# Altium schematic symbol library jlcpcb_2025_04_ferrites_extended_1206.schlib: 308 symbols (part 4 of 6)
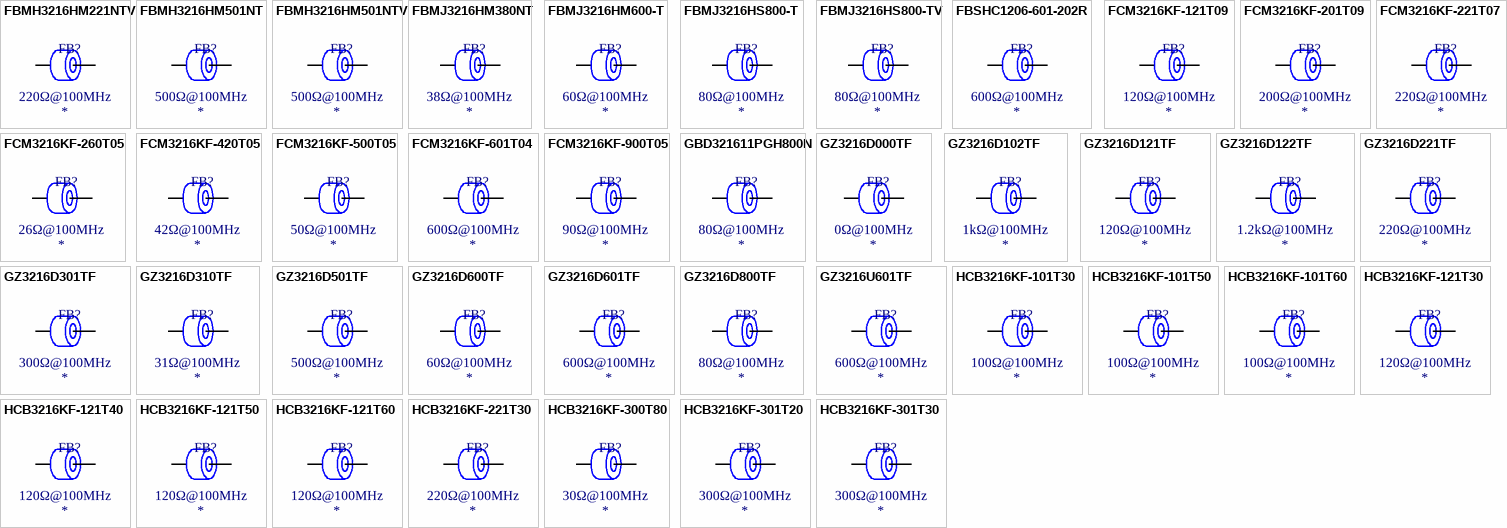
[diagram p10: symbols FBMH3216HM221NTV to HCB3216KF-301T30]

## FBMJ3216HM600-T
designator FB?  Impedance @ Frequency: 60Ω@100MHz
Ferrite, 60Ω@100MHz, ±25%, 10mΩ, 4A, SMD 1206; Manufacturer: Taiyo Yuden; Manufacturer Part Number: FBMJ3216HM600-T; Package Size: 1206; JLCPCB Basic Part: No; JLCPCB Part Number: C92886; Supplier 1: LCSC; Category: Ferrite Beads; Supplier Part Number 1: C92886; Tolerance: ±25%; Rated Current: 4A; DC Resistance: 10mΩ; RoHS: Yes; ComponentLink1Description: Datasheet; ComponentLink1URL: https://wmsc.lcsc.com/wmsc/upload/file/pdf/v2/lcsc/1810171733_Taiyo-Yuden-FBMJ3216HM600-T_C92886.pdf; ComponentLink2Description: JLCPCB Part URL; ComponentLink2URL: https://jlcpcb.com/partdetail/C92886; ComponentLink3Description: LCSC Part URL; ComponentLink3URL: https://lcsc.com/product-detail/Ferrite-Beads_Taiyo-Yuden-Taiyo-Yuden-FBMJ3216HM600-T_C92886.html
footprint FB-1206 (1206 (3216M) Ferrite)
pins: 1, 2

## FBMJ3216HS800-T
designator FB?  Impedance @ Frequency: 80Ω@100MHz
Ferrite, 80Ω@100MHz, ±25%, 10mΩ, 4A, SMD 1206; Manufacturer: Taiyo Yuden; Manufacturer Part Number: FBMJ3216HS800-T; Package Size: 1206; JLCPCB Basic Part: No; JLCPCB Part Number: C92887; Supplier 1: LCSC; Category: Ferrite Beads; Supplier Part Number 1: C92887; Tolerance: ±25%; Rated Current: 4A; DC Resistance: 10mΩ; RoHS: Yes; ComponentLink1Description: Datasheet; ComponentLink1URL: https://wmsc.lcsc.com/wmsc/upload/file/pdf/v2/lcsc/1810292006_Taiyo-Yuden-FBMJ3216HS800-T_C92887.pdf; ComponentLink2Description: JLCPCB Part URL; ComponentLink2URL: https://jlcpcb.com/partdetail/C92887; ComponentLink3Description: LCSC Part URL; ComponentLink3URL: https://lcsc.com/product-detail/Ferrite-Beads_Taiyo-Yuden-Taiyo-Yuden-FBMJ3216HS800-T_C92887.html
footprint FB-1206 (1206 (3216M) Ferrite)
pins: 1, 2

## FBMJ3216HS800-TV
designator FB?  Impedance @ Frequency: 80Ω@100MHz
Ferrite, 80Ω@100MHz, ±25%, 0.01Ω, 4A, SMD 1206; Manufacturer: Taiyo Yuden; Manufacturer Part Number: FBMJ3216HS800-TV; Package Size: 1206; JLCPCB Basic Part: No; JLCPCB Part Number: C2661525; Supplier 1: LCSC; Category: Ferrite Beads; Supplier Part Number 1: C2661525; Tolerance: ±25%; Rated Current: 4A; DC Resistance: 0.01Ω; RoHS: Yes; ComponentLink1Description: Datasheet; ComponentLink1URL: https://wmsc.lcsc.com/wmsc/upload/file/pdf/v2/lcsc/2309051352_Taiyo-Yuden-FBMJ3216HS800-TV_C2661525.pdf; ComponentLink2Description: JLCPCB Part URL; ComponentLink2URL: https://jlcpcb.com/partdetail/C2661525; ComponentLink3Description: LCSC Part URL; ComponentLink3URL: https://lcsc.com/product-detail/Ferrite-Beads_Taiyo-Yuden-Taiyo-Yuden-FBMJ3216HS800-TV_C2661525.html
footprint FB-1206 (1206 (3216M) Ferrite)
pins: 1, 2

## FBSHC1206-601-202R
designator FB?  Impedance @ Frequency: 600Ω@100MHz
Ferrite, 600Ω@100MHz, ±25%, 0.08Ω, 2A, SMD 1206; Manufacturer: KOHERelec; Manufacturer Part Number: FBSHC1206-601-202R; Package Size: 1206; JLCPCB Basic Part: No; JLCPCB Part Number: C2922545; Supplier 1: LCSC; Category: Ferrite Beads; Supplier Part Number 1: C2922545; Tolerance: ±25%; Rated Current: 2A; DC Resistance: 0.08Ω; RoHS: Yes; ComponentLink1Description: Datasheet; ComponentLink1URL: https://wmsc.lcsc.com/wmsc/upload/file/pdf/v2/lcsc/2201121300_KOHERelec-FBSHC1206-601-202R_C2922545.pdf; ComponentLink2Description: JLCPCB Part URL; ComponentLink2URL: https://jlcpcb.com/partdetail/C2922545; ComponentLink3Description: LCSC Part URL; ComponentLink3URL: https://lcsc.com/product-detail/Ferrite-Beads_KOHERelec-KOHERelec-FBSHC1206-601-202R_C2922545.html
footprint FB-1206 (1206 (3216M) Ferrite)
pins: 1, 2

## FCM3216KF-121T09
designator FB?  Impedance @ Frequency: 120Ω@100MHz
Ferrite, 120Ω@100MHz, ±25%, 150mΩ, 900mA, SMD 1206; Manufacturer: TAI-TECH; Manufacturer Part Number: FCM3216KF-121T09; Package Size: 1206; JLCPCB Basic Part: No; JLCPCB Part Number: C155089; Supplier 1: LCSC; Category: Ferrite Beads; Supplier Part Number 1: C155089; Tolerance: ±25%; Rated Current: 900mA; DC Resistance: 150mΩ; RoHS: Yes; ComponentLink1Description: Datasheet; ComponentLink1URL: https://wmsc.lcsc.com/wmsc/upload/file/pdf/v2/lcsc/2009171308_TAI-TECH-FCM3216KF-121T09_C155089.pdf; ComponentLink2Description: JLCPCB Part URL; ComponentLink2URL: https://jlcpcb.com/partdetail/C155089; ComponentLink3Description: LCSC Part URL; ComponentLink3URL: https://lcsc.com/product-detail/Ferrite-Beads_TAI-TECH-TAI-TECH-FCM3216KF-121T09_C155089.html
footprint FB-1206 (1206 (3216M) Ferrite)
pins: 1, 2

## FCM3216KF-201T09
designator FB?  Impedance @ Frequency: 200Ω@100MHz
Ferrite, 200Ω@100MHz, ±25%, 350mΩ, 900mA, SMD 1206; Manufacturer: TAI-TECH; Manufacturer Part Number: FCM3216KF-201T09; Package Size: 1206; JLCPCB Basic Part: No; JLCPCB Part Number: C155091; Supplier 1: LCSC; Category: Ferrite Beads; Supplier Part Number 1: C155091; Tolerance: ±25%; Rated Current: 900mA; DC Resistance: 350mΩ; RoHS: Yes; ComponentLink1Description: Datasheet; ComponentLink1URL: https://wmsc.lcsc.com/wmsc/upload/file/pdf/v2/lcsc/2009171308_TAI-TECH-FCM3216KF-201T09_C155091.pdf; ComponentLink2Description: JLCPCB Part URL; ComponentLink2URL: https://jlcpcb.com/partdetail/C155091; ComponentLink3Description: LCSC Part URL; ComponentLink3URL: https://lcsc.com/product-detail/Ferrite-Beads_TAI-TECH-TAI-TECH-FCM3216KF-201T09_C155091.html
footprint FB-1206 (1206 (3216M) Ferrite)
pins: 1, 2

## FCM3216KF-221T07
designator FB?  Impedance @ Frequency: 220Ω@100MHz
Ferrite, 220Ω@100MHz, ±25%, 350mΩ, 700mA, SMD 1206; Manufacturer: TAI-TECH; Manufacturer Part Number: FCM3216KF-221T07; Package Size: 1206; JLCPCB Basic Part: No; JLCPCB Part Number: C155092; Supplier 1: LCSC; Category: Ferrite Beads; Supplier Part Number 1: C155092; Tolerance: ±25%; Rated Current: 700mA; DC Resistance: 350mΩ; RoHS: Yes; ComponentLink1Description: Datasheet; ComponentLink1URL: https://wmsc.lcsc.com/wmsc/upload/file/pdf/v2/lcsc/2009171308_TAI-TECH-FCM3216KF-221T07_C155092.pdf; ComponentLink2Description: JLCPCB Part URL; ComponentLink2URL: https://jlcpcb.com/partdetail/C155092; ComponentLink3Description: LCSC Part URL; ComponentLink3URL: https://lcsc.com/product-detail/Ferrite-Beads_TAI-TECH-TAI-TECH-FCM3216KF-221T07_C155092.html
footprint FB-1206 (1206 (3216M) Ferrite)
pins: 1, 2

## FCM3216KF-260T05
designator FB?  Impedance @ Frequency: 26Ω@100MHz
Ferrite, 26Ω@100MHz, ±25%, 200mΩ, 500mA, SMD 1206; Manufacturer: TAI-TECH; Manufacturer Part Number: FCM3216KF-260T05; Package Size: 1206; JLCPCB Basic Part: No; JLCPCB Part Number: C155093; Supplier 1: LCSC; Category: Ferrite Beads; Supplier Part Number 1: C155093; Tolerance: ±25%; Rated Current: 500mA; DC Resistance: 200mΩ; RoHS: Yes; ComponentLink1Description: Datasheet; ComponentLink1URL: https://wmsc.lcsc.com/wmsc/upload/file/pdf/v2/lcsc/2009171308_TAI-TECH-FCM3216KF-260T05_C155093.pdf; ComponentLink2Description: JLCPCB Part URL; ComponentLink2URL: https://jlcpcb.com/partdetail/C155093; ComponentLink3Description: LCSC Part URL; ComponentLink3URL: https://lcsc.com/product-detail/Ferrite-Beads_TAI-TECH-TAI-TECH-FCM3216KF-260T05_C155093.html
footprint FB-1206 (1206 (3216M) Ferrite)
pins: 1, 2

## FCM3216KF-420T05
designator FB?  Impedance @ Frequency: 42Ω@100MHz
Ferrite, 42Ω@100MHz, ±25%, 200mΩ, 500mA, SMD 1206; Manufacturer: TAI-TECH; Manufacturer Part Number: FCM3216KF-420T05; Package Size: 1206; JLCPCB Basic Part: No; JLCPCB Part Number: C155096; Supplier 1: LCSC; Category: Ferrite Beads; Supplier Part Number 1: C155096; Tolerance: ±25%; Rated Current: 500mA; DC Resistance: 200mΩ; RoHS: Yes; ComponentLink1Description: Datasheet; ComponentLink1URL: https://wmsc.lcsc.com/wmsc/upload/file/pdf/v2/lcsc/2009171308_TAI-TECH-FCM3216KF-420T05_C155096.pdf; ComponentLink2Description: JLCPCB Part URL; ComponentLink2URL: https://jlcpcb.com/partdetail/C155096; ComponentLink3Description: LCSC Part URL; ComponentLink3URL: https://lcsc.com/product-detail/Ferrite-Beads_TAI-TECH-TAI-TECH-FCM3216KF-420T05_C155096.html
footprint FB-1206 (1206 (3216M) Ferrite)
pins: 1, 2

## FCM3216KF-500T05
designator FB?  Impedance @ Frequency: 50Ω@100MHz
Ferrite, 50Ω@100MHz, ±25%, 200mΩ, 500mA, SMD 1206; Manufacturer: TAI-TECH; Manufacturer Part Number: FCM3216KF-500T05; Package Size: 1206; JLCPCB Basic Part: No; JLCPCB Part Number: C155098; Supplier 1: LCSC; Category: Ferrite Beads; Supplier Part Number 1: C155098; Tolerance: ±25%; Rated Current: 500mA; DC Resistance: 200mΩ; RoHS: Yes; ComponentLink1Description: Datasheet; ComponentLink1URL: https://wmsc.lcsc.com/wmsc/upload/file/pdf/v2/lcsc/2009171335_TAI-TECH-FCM3216KF-500T05_C155098.pdf; ComponentLink2Description: JLCPCB Part URL; ComponentLink2URL: https://jlcpcb.com/partdetail/C155098; ComponentLink3Description: LCSC Part URL; ComponentLink3URL: https://lcsc.com/product-detail/Ferrite-Beads_TAI-TECH-TAI-TECH-FCM3216KF-500T05_C155098.html
footprint FB-1206 (1206 (3216M) Ferrite)
pins: 1, 2

## FCM3216KF-601T04
designator FB?  Impedance @ Frequency: 600Ω@100MHz
Ferrite, 600Ω@100MHz, ±25%, 400mΩ, 400mA, SMD 1206; Manufacturer: TAI-TECH; Manufacturer Part Number: FCM3216KF-601T04; Package Size: 1206; JLCPCB Basic Part: No; JLCPCB Part Number: C155099; Supplier 1: LCSC; Category: Ferrite Beads; Supplier Part Number 1: C155099; Tolerance: ±25%; Rated Current: 400mA; DC Resistance: 400mΩ; RoHS: Yes; ComponentLink1Description: Datasheet; ComponentLink1URL: https://wmsc.lcsc.com/wmsc/upload/file/pdf/v2/lcsc/2009171335_TAI-TECH-FCM3216KF-601T04_C155099.pdf; ComponentLink2Description: JLCPCB Part URL; ComponentLink2URL: https://jlcpcb.com/partdetail/C155099; ComponentLink3Description: LCSC Part URL; ComponentLink3URL: https://lcsc.com/product-detail/Ferrite-Beads_TAI-TECH-TAI-TECH-FCM3216KF-601T04_C155099.html
footprint FB-1206 (1206 (3216M) Ferrite)
pins: 1, 2

## FCM3216KF-900T05
designator FB?  Impedance @ Frequency: 90Ω@100MHz
Ferrite, 90Ω@100MHz, ±25%, 200mΩ, 500mA, SMD 1206; Manufacturer: TAI-TECH; Manufacturer Part Number: FCM3216KF-900T05; Package Size: 1206; JLCPCB Basic Part: No; JLCPCB Part Number: C155101; Supplier 1: LCSC; Category: Ferrite Beads; Supplier Part Number 1: C155101; Tolerance: ±25%; Rated Current: 500mA; DC Resistance: 200mΩ; RoHS: Yes; ComponentLink1Description: Datasheet; ComponentLink1URL: https://wmsc.lcsc.com/wmsc/upload/file/pdf/v2/lcsc/2009171335_TAI-TECH-FCM3216KF-900T05_C155101.pdf; ComponentLink2Description: JLCPCB Part URL; ComponentLink2URL: https://jlcpcb.com/partdetail/C155101; ComponentLink3Description: LCSC Part URL; ComponentLink3URL: https://lcsc.com/product-detail/Ferrite-Beads_TAI-TECH-TAI-TECH-FCM3216KF-900T05_C155101.html
footprint FB-1206 (1206 (3216M) Ferrite)
pins: 1, 2

## GBD321611PGH800N
designator FB?  Impedance @ Frequency: 80Ω@100MHz
Ferrite, 80Ω@100MHz, ±25%, 25mΩ, 3A, SMD 1206; Manufacturer: Gotrend Tech; Manufacturer Part Number: GBD321611PGH800N; Package Size: 1206; JLCPCB Basic Part: No; JLCPCB Part Number: C380287; Supplier 1: LCSC; Category: Ferrite Beads; Supplier Part Number 1: C380287; Tolerance: ±25%; Rated Current: 3A; DC Resistance: 25mΩ; RoHS: Yes; ComponentLink1Description: Datasheet; ComponentLink1URL: https://wmsc.lcsc.com/wmsc/upload/file/pdf/v2/lcsc/1912111437_Gotrend-Tech-GBD321611PGH800N_C380287.pdf; ComponentLink2Description: JLCPCB Part URL; ComponentLink2URL: https://jlcpcb.com/partdetail/C380287; ComponentLink3Description: LCSC Part URL; ComponentLink3URL: https://lcsc.com/product-detail/Ferrite-Beads_Gotrend-Tech-Gotrend-Tech-GBD321611PGH800N_C380287.html
footprint FB-1206 (1206 (3216M) Ferrite)
pins: 1, 2

## GZ3216D000TF
designator FB?  Impedance @ Frequency: 0Ω@100MHz
Ferrite, 0Ω@100MHz, 30mΩ, 2.2A, SMD 1206; Manufacturer: Sunlord; Manufacturer Part Number: GZ3216D000TF; Package Size: 1206; JLCPCB Basic Part: No; JLCPCB Part Number: C317629; Supplier 1: LCSC; Category: Ferrite Beads; Supplier Part Number 1: C317629; Rated Current: 2.2A; DC Resistance: 30mΩ; RoHS: Yes; ComponentLink1Description: Datasheet; ComponentLink1URL: https://wmsc.lcsc.com/wmsc/upload/file/pdf/v2/lcsc/2310301640_Sunlord-GZ3216D000TF_C317629.pdf; ComponentLink2Description: JLCPCB Part URL; ComponentLink2URL: https://jlcpcb.com/partdetail/C317629; ComponentLink3Description: LCSC Part URL; ComponentLink3URL: https://lcsc.com/product-detail/Ferrite-Beads_Sunlord-Sunlord-GZ3216D000TF_C317629.html
pins: 1, 2

## GZ3216D102TF
designator FB?  Impedance @ Frequency: 1kΩ@100MHz
Ferrite, 1kΩ@100MHz, ±25%, 600mΩ, 500mA, SMD 1206; Manufacturer: Sunlord; Manufacturer Part Number: GZ3216D102TF; Package Size: 1206; JLCPCB Basic Part: No; JLCPCB Part Number: C317621; Supplier 1: LCSC; Category: Ferrite Beads; Supplier Part Number 1: C317621; Tolerance: ±25%; Rated Current: 500mA; DC Resistance: 600mΩ; RoHS: Yes; ComponentLink1Description: Datasheet; ComponentLink1URL: https://wmsc.lcsc.com/wmsc/upload/file/pdf/v2/lcsc/2310301640_Sunlord-GZ3216D102TF_C317621.pdf; ComponentLink2Description: JLCPCB Part URL; ComponentLink2URL: https://jlcpcb.com/partdetail/C317621; ComponentLink3Description: LCSC Part URL; ComponentLink3URL: https://lcsc.com/product-detail/Ferrite-Beads_Sunlord-Sunlord-GZ3216D102TF_C317621.html
footprint FB-1206 (1206 (3216M) Ferrite)
pins: 1, 2

## GZ3216D121TF
designator FB?  Impedance @ Frequency: 120Ω@100MHz
Ferrite, 120Ω@100MHz, ±25%, 100mΩ, 1A, SMD 1206; Manufacturer: Sunlord; Manufacturer Part Number: GZ3216D121TF; Package Size: 1206; JLCPCB Basic Part: No; JLCPCB Part Number: C98268; Supplier 1: LCSC; Category: Ferrite Beads; Supplier Part Number 1: C98268; Tolerance: ±25%; Rated Current: 1A; DC Resistance: 100mΩ; RoHS: Yes; ComponentLink1Description: Datasheet; ComponentLink1URL: https://wmsc.lcsc.com/wmsc/upload/file/pdf/v2/lcsc/2310301640_Sunlord-GZ3216D121TF_C98268.pdf; ComponentLink2Description: JLCPCB Part URL; ComponentLink2URL: https://jlcpcb.com/partdetail/C98268; ComponentLink3Description: LCSC Part URL; ComponentLink3URL: https://lcsc.com/product-detail/Ferrite-Beads_Sunlord-Sunlord-GZ3216D121TF_C98268.html
footprint FB-1206 (1206 (3216M) Ferrite)
pins: 1, 2

## GZ3216D122TF
designator FB?  Impedance @ Frequency: 1.2kΩ@100MHz
Ferrite, 1.2kΩ@100MHz, ±25%, 600mΩ, 300mA, SMD 1206; Manufacturer: Sunlord; Manufacturer Part Number: GZ3216D122TF; Package Size: 1206; JLCPCB Basic Part: No; JLCPCB Part Number: C361542; Supplier 1: LCSC; Category: Ferrite Beads; Supplier Part Number 1: C361542; Tolerance: ±25%; Rated Current: 300mA; DC Resistance: 600mΩ; RoHS: Yes; ComponentLink1Description: Datasheet; ComponentLink1URL: https://wmsc.lcsc.com/wmsc/upload/file/pdf/v2/lcsc/2310301640_Sunlord-GZ3216D122TF_C361542.pdf; ComponentLink2Description: JLCPCB Part URL; ComponentLink2URL: https://jlcpcb.com/partdetail/C361542; ComponentLink3Description: LCSC Part URL; ComponentLink3URL: https://lcsc.com/product-detail/Ferrite-Beads_Sunlord-Sunlord-GZ3216D122TF_C361542.html
footprint FB-1206 (1206 (3216M) Ferrite)
pins: 1, 2

## GZ3216D221TF
designator FB?  Impedance @ Frequency: 220Ω@100MHz
Ferrite, 220Ω@100MHz, ±25%, 200mΩ, 600mA, SMD 1206; Manufacturer: Sunlord; Manufacturer Part Number: GZ3216D221TF; Package Size: 1206; JLCPCB Basic Part: No; JLCPCB Part Number: C317625; Supplier 1: LCSC; Category: Ferrite Beads; Supplier Part Number 1: C317625; Tolerance: ±25%; Rated Current: 600mA; DC Resistance: 200mΩ; RoHS: Yes; ComponentLink1Description: Datasheet; ComponentLink1URL: https://wmsc.lcsc.com/wmsc/upload/file/pdf/v2/lcsc/2310301640_Sunlord-GZ3216D221TF_C317625.pdf; ComponentLink2Description: JLCPCB Part URL; ComponentLink2URL: https://jlcpcb.com/partdetail/C317625; ComponentLink3Description: LCSC Part URL; ComponentLink3URL: https://lcsc.com/product-detail/Ferrite-Beads_Sunlord-Sunlord-GZ3216D221TF_C317625.html
footprint FB-1206 (1206 (3216M) Ferrite)
pins: 1, 2

## GZ3216D301TF
designator FB?  Impedance @ Frequency: 300Ω@100MHz
Ferrite, 300Ω@100MHz, ±25%, 200mΩ, 600mA, SMD 1206; Manufacturer: Sunlord; Manufacturer Part Number: GZ3216D301TF; Package Size: 1206; JLCPCB Basic Part: No; JLCPCB Part Number: C317624; Supplier 1: LCSC; Category: Ferrite Beads; Supplier Part Number 1: C317624; Tolerance: ±25%; Rated Current: 600mA; DC Resistance: 200mΩ; RoHS: Yes; ComponentLink1Description: Datasheet; ComponentLink1URL: https://wmsc.lcsc.com/wmsc/upload/file/pdf/v2/lcsc/2310301640_Sunlord-GZ3216D301TF_C317624.pdf; ComponentLink2Description: JLCPCB Part URL; ComponentLink2URL: https://jlcpcb.com/partdetail/C317624; ComponentLink3Description: LCSC Part URL; ComponentLink3URL: https://lcsc.com/product-detail/Ferrite-Beads_Sunlord-Sunlord-GZ3216D301TF_C317624.html
footprint FB-1206 (1206 (3216M) Ferrite)
pins: 1, 2

## GZ3216D310TF
designator FB?  Impedance @ Frequency: 31Ω@100MHz
Ferrite, 31Ω@100MHz, ±25%, 50mΩ, 2A, SMD 1206; Manufacturer: Sunlord; Manufacturer Part Number: GZ3216D310TF; Package Size: 1206; JLCPCB Basic Part: No; JLCPCB Part Number: C317628; Supplier 1: LCSC; Category: Ferrite Beads; Supplier Part Number 1: C317628; Tolerance: ±25%; Rated Current: 2A; DC Resistance: 50mΩ; RoHS: Yes; ComponentLink1Description: Datasheet; ComponentLink1URL: https://wmsc.lcsc.com/wmsc/upload/file/pdf/v2/lcsc/2310301640_Sunlord-GZ3216D310TF_C317628.pdf; ComponentLink2Description: JLCPCB Part URL; ComponentLink2URL: https://jlcpcb.com/partdetail/C317628; ComponentLink3Description: LCSC Part URL; ComponentLink3URL: https://lcsc.com/product-detail/Ferrite-Beads_Sunlord-Sunlord-GZ3216D310TF_C317628.html
footprint FB-1206 (1206 (3216M) Ferrite)
pins: 1, 2

## GZ3216D501TF
designator FB?  Impedance @ Frequency: 500Ω@100MHz
Ferrite, 500Ω@100MHz, ±25%, 300mΩ, 600mA, SMD 1206; Manufacturer: Sunlord; Manufacturer Part Number: GZ3216D501TF; Package Size: 1206; JLCPCB Basic Part: No; JLCPCB Part Number: C317623; Supplier 1: LCSC; Category: Ferrite Beads; Supplier Part Number 1: C317623; Tolerance: ±25%; Rated Current: 600mA; DC Resistance: 300mΩ; RoHS: Yes; ComponentLink1Description: Datasheet; ComponentLink1URL: https://wmsc.lcsc.com/wmsc/upload/file/pdf/v2/lcsc/2310301640_Sunlord-GZ3216D501TF_C317623.pdf; ComponentLink2Description: JLCPCB Part URL; ComponentLink2URL: https://jlcpcb.com/partdetail/C317623; ComponentLink3Description: LCSC Part URL; ComponentLink3URL: https://lcsc.com/product-detail/Ferrite-Beads_Sunlord-Sunlord-GZ3216D501TF_C317623.html
footprint FB-1206 (1206 (3216M) Ferrite)
pins: 1, 2

## GZ3216D600TF
designator FB?  Impedance @ Frequency: 60Ω@100MHz
Ferrite, 60Ω@100MHz, ±25%, 100mΩ, 1A, SMD 1206; Manufacturer: Sunlord; Manufacturer Part Number: GZ3216D600TF; Package Size: 1206; JLCPCB Basic Part: No; JLCPCB Part Number: C317627; Supplier 1: LCSC; Category: Ferrite Beads; Supplier Part Number 1: C317627; Tolerance: ±25%; Rated Current: 1A; DC Resistance: 100mΩ; RoHS: Yes; ComponentLink1Description: Datasheet; ComponentLink1URL: https://wmsc.lcsc.com/wmsc/upload/file/pdf/v2/lcsc/2310301640_Sunlord-GZ3216D600TF_C317627.pdf; ComponentLink2Description: JLCPCB Part URL; ComponentLink2URL: https://jlcpcb.com/partdetail/C317627; ComponentLink3Description: LCSC Part URL; ComponentLink3URL: https://lcsc.com/product-detail/Ferrite-Beads_Sunlord-Sunlord-GZ3216D600TF_C317627.html
footprint FB-1206 (1206 (3216M) Ferrite)
pins: 1, 2

## GZ3216D601TF
designator FB?  Impedance @ Frequency: 600Ω@100MHz
Ferrite, 600Ω@100MHz, ±25%, 300mΩ, 600mA, SMD 1206; Manufacturer: Sunlord; Manufacturer Part Number: GZ3216D601TF; Package Size: 1206; JLCPCB Basic Part: No; JLCPCB Part Number: C317622; Supplier 1: LCSC; Category: Ferrite Beads; Supplier Part Number 1: C317622; Tolerance: ±25%; Rated Current: 600mA; DC Resistance: 300mΩ; RoHS: Yes; ComponentLink1Description: Datasheet; ComponentLink1URL: https://wmsc.lcsc.com/wmsc/upload/file/pdf/v2/lcsc/2310301640_Sunlord-GZ3216D601TF_C317622.pdf; ComponentLink2Description: JLCPCB Part URL; ComponentLink2URL: https://jlcpcb.com/partdetail/C317622; ComponentLink3Description: LCSC Part URL; ComponentLink3URL: https://lcsc.com/product-detail/Ferrite-Beads_Sunlord-Sunlord-GZ3216D601TF_C317622.html
footprint FB-1206 (1206 (3216M) Ferrite)
pins: 1, 2

## GZ3216D800TF
designator FB?  Impedance @ Frequency: 80Ω@100MHz
Ferrite, 80Ω@100MHz, ±25%, 100mΩ, 1A, SMD 1206; Manufacturer: Sunlord; Manufacturer Part Number: GZ3216D800TF; Package Size: 1206; JLCPCB Basic Part: No; JLCPCB Part Number: C317626; Supplier 1: LCSC; Category: Ferrite Beads; Supplier Part Number 1: C317626; Tolerance: ±25%; Rated Current: 1A; DC Resistance: 100mΩ; RoHS: Yes; ComponentLink1Description: Datasheet; ComponentLink1URL: https://wmsc.lcsc.com/wmsc/upload/file/pdf/v2/lcsc/2310301640_Sunlord-GZ3216D800TF_C317626.pdf; ComponentLink2Description: JLCPCB Part URL; ComponentLink2URL: https://jlcpcb.com/partdetail/C317626; ComponentLink3Description: LCSC Part URL; ComponentLink3URL: https://lcsc.com/product-detail/Ferrite-Beads_Sunlord-Sunlord-GZ3216D800TF_C317626.html
footprint FB-1206 (1206 (3216M) Ferrite)
pins: 1, 2

## GZ3216U601TF
designator FB?  Impedance @ Frequency: 600Ω@100MHz
Ferrite, 600Ω@100MHz, ±25%, 300mΩ, 600mA, SMD 1206; Manufacturer: Sunlord; Manufacturer Part Number: GZ3216U601TF; Package Size: 1206; JLCPCB Basic Part: No; JLCPCB Part Number: C361543; Supplier 1: LCSC; Category: Ferrite Beads; Supplier Part Number 1: C361543; Tolerance: ±25%; Rated Current: 600mA; DC Resistance: 300mΩ; RoHS: Yes; ComponentLink1Description: Datasheet; ComponentLink1URL: https://wmsc.lcsc.com/wmsc/upload/file/pdf/v2/lcsc/2310301640_Sunlord-GZ3216U601TF_C361543.pdf; ComponentLink2Description: JLCPCB Part URL; ComponentLink2URL: https://jlcpcb.com/partdetail/C361543; ComponentLink3Description: LCSC Part URL; ComponentLink3URL: https://lcsc.com/product-detail/Ferrite-Beads_Sunlord-Sunlord-GZ3216U601TF_C361543.html
footprint FB-1206 (1206 (3216M) Ferrite)
pins: 1, 2

## HCB3216KF-101T30
designator FB?  Impedance @ Frequency: 100Ω@100MHz
Ferrite, 100Ω@100MHz, SMD 1206; Manufacturer: TAI-TECH; Manufacturer Part Number: HCB3216KF-101T30; Package Size: 1206; JLCPCB Basic Part: No; JLCPCB Part Number: C127313; Supplier 1: LCSC; Category: Ferrite Beads; Supplier Part Number 1: C127313; RoHS: Yes; ComponentLink1Description: Datasheet; ComponentLink2Description: JLCPCB Part URL; ComponentLink2URL: https://jlcpcb.com/partdetail/C127313; ComponentLink3Description: LCSC Part URL; ComponentLink3URL: https://lcsc.com/product-detail/Ferrite-Beads_TAI-TECH-TAI-TECH-HCB3216KF-101T30_C127313.html
pins: 1, 2

## HCB3216KF-101T50
designator FB?  Impedance @ Frequency: 100Ω@100MHz
Ferrite, 100Ω@100MHz, ±25%, 20mΩ, 5A, SMD 1206; Manufacturer: TAI-TECH; Manufacturer Part Number: HCB3216KF-101T50; Package Size: 1206; JLCPCB Basic Part: No; JLCPCB Part Number: C357011; Supplier 1: LCSC; Category: Ferrite Beads; Supplier Part Number 1: C357011; Tolerance: ±25%; Rated Current: 5A; DC Resistance: 20mΩ; RoHS: Yes; ComponentLink1Description: Datasheet; ComponentLink1URL: https://wmsc.lcsc.com/wmsc/upload/file/pdf/v2/lcsc/2009171204_TAI-TECH-HCB3216KF-101T50_C357011.pdf; ComponentLink2Description: JLCPCB Part URL; ComponentLink2URL: https://jlcpcb.com/partdetail/C357011; ComponentLink3Description: LCSC Part URL; ComponentLink3URL: https://lcsc.com/product-detail/Ferrite-Beads_TAI-TECH-TAI-TECH-HCB3216KF-101T50_C357011.html
footprint FB-1206 (1206 (3216M) Ferrite)
pins: 1, 2

## HCB3216KF-101T60
designator FB?  Impedance @ Frequency: 100Ω@100MHz
Ferrite, 100Ω@100MHz, ±25%, 0.018Ω, 6A, SMD 1206; Manufacturer: TAI-TECH; Manufacturer Part Number: HCB3216KF-101T60; Package Size: 1206; JLCPCB Basic Part: No; JLCPCB Part Number: C2932311; Supplier 1: LCSC; Category: Ferrite Beads; Supplier Part Number 1: C2932311; Tolerance: ±25%; Rated Current: 6A; DC Resistance: 0.018Ω; RoHS: Yes; ComponentLink1Description: Datasheet; ComponentLink1URL: https://wmsc.lcsc.com/wmsc/upload/file/pdf/v2/lcsc/2201121530_TAI-TECH-HCB3216KF-101T60_C2932311.pdf; ComponentLink2Description: JLCPCB Part URL; ComponentLink2URL: https://jlcpcb.com/partdetail/C2932311; ComponentLink3Description: LCSC Part URL; ComponentLink3URL: https://lcsc.com/product-detail/Ferrite-Beads_TAI-TECH-TAI-TECH-HCB3216KF-101T60_C2932311.html
footprint FB-1206 (1206 (3216M) Ferrite)
pins: 1, 2

## HCB3216KF-121T30
designator FB?  Impedance @ Frequency: 120Ω@100MHz
Ferrite, 120Ω@100MHz, ±25%, 40mΩ, 3A, SMD 1206; Manufacturer: TAI-TECH; Manufacturer Part Number: HCB3216KF-121T30; Package Size: 1206; JLCPCB Basic Part: No; JLCPCB Part Number: C357012; Supplier 1: LCSC; Category: Ferrite Beads; Supplier Part Number 1: C357012; Tolerance: ±25%; Rated Current: 3A; DC Resistance: 40mΩ; RoHS: Yes; ComponentLink1Description: Datasheet; ComponentLink1URL: https://wmsc.lcsc.com/wmsc/upload/file/pdf/v2/lcsc/2009171204_TAI-TECH-HCB3216KF-121T30_C357012.pdf; ComponentLink2Description: JLCPCB Part URL; ComponentLink2URL: https://jlcpcb.com/partdetail/C357012; ComponentLink3Description: LCSC Part URL; ComponentLink3URL: https://lcsc.com/product-detail/Ferrite-Beads_TAI-TECH-TAI-TECH-HCB3216KF-121T30_C357012.html
footprint FB-1206 (1206 (3216M) Ferrite)
pins: 1, 2

## HCB3216KF-121T40
designator FB?  Impedance @ Frequency: 120Ω@100MHz
Ferrite, 120Ω@100MHz, ±25%, 30mΩ, 4A, SMD 1206; Manufacturer: TAI-TECH; Manufacturer Part Number: HCB3216KF-121T40; Package Size: 1206; JLCPCB Basic Part: No; JLCPCB Part Number: C369528; Supplier 1: LCSC; Category: Ferrite Beads; Supplier Part Number 1: C369528; Tolerance: ±25%; Rated Current: 4A; DC Resistance: 30mΩ; RoHS: Yes; ComponentLink1Description: Datasheet; ComponentLink1URL: https://wmsc.lcsc.com/wmsc/upload/file/pdf/v2/lcsc/2009171441_TAI-TECH-HCB3216KF-121T40_C369528.pdf; ComponentLink2Description: JLCPCB Part URL; ComponentLink2URL: https://jlcpcb.com/partdetail/C369528; ComponentLink3Description: LCSC Part URL; ComponentLink3URL: https://lcsc.com/product-detail/Ferrite-Beads_TAI-TECH-TAI-TECH-HCB3216KF-121T40_C369528.html
footprint FB-1206 (1206 (3216M) Ferrite)
pins: 1, 2

## HCB3216KF-121T50
designator FB?  Impedance @ Frequency: 120Ω@100MHz
Ferrite, 120Ω@100MHz, ±25%, 20mΩ, 5A, SMD 1206; Manufacturer: TAI-TECH; Manufacturer Part Number: HCB3216KF-121T50; Package Size: 1206; JLCPCB Basic Part: No; JLCPCB Part Number: C304331; Supplier 1: LCSC; Category: Ferrite Beads; Supplier Part Number 1: C304331; Tolerance: ±25%; Rated Current: 5A; DC Resistance: 20mΩ; RoHS: Yes; ComponentLink1Description: Datasheet; ComponentLink1URL: https://wmsc.lcsc.com/wmsc/upload/file/pdf/v2/lcsc/2009171411_TAI-TECH-HCB3216KF-121T50_C304331.pdf; ComponentLink2Description: JLCPCB Part URL; ComponentLink2URL: https://jlcpcb.com/partdetail/C304331; ComponentLink3Description: LCSC Part URL; ComponentLink3URL: https://lcsc.com/product-detail/Ferrite-Beads_TAI-TECH-TAI-TECH-HCB3216KF-121T50_C304331.html
footprint FB-1206 (1206 (3216M) Ferrite)
pins: 1, 2

## HCB3216KF-121T60
designator FB?  Impedance @ Frequency: 120Ω@100MHz
Ferrite, 120Ω@100MHz, ±25%, 18mΩ, 6A, SMD 1206; Manufacturer: TAI-TECH; Manufacturer Part Number: HCB3216KF-121T60; Package Size: 1206; JLCPCB Basic Part: No; JLCPCB Part Number: C357013; Supplier 1: LCSC; Category: Ferrite Beads; Supplier Part Number 1: C357013; Tolerance: ±25%; Rated Current: 6A; DC Resistance: 18mΩ; RoHS: Yes; ComponentLink1Description: Datasheet; ComponentLink1URL: https://wmsc.lcsc.com/wmsc/upload/file/pdf/v2/lcsc/2009171204_TAI-TECH-HCB3216KF-121T60_C357013.pdf; ComponentLink2Description: JLCPCB Part URL; ComponentLink2URL: https://jlcpcb.com/partdetail/C357013; ComponentLink3Description: LCSC Part URL; ComponentLink3URL: https://lcsc.com/product-detail/Ferrite-Beads_TAI-TECH-TAI-TECH-HCB3216KF-121T60_C357013.html
footprint FB-1206 (1206 (3216M) Ferrite)
pins: 1, 2

## HCB3216KF-221T30
designator FB?  Impedance @ Frequency: 220Ω@100MHz
Ferrite, 220Ω@100MHz, ±25%, 40mΩ, 3A, SMD 1206; Manufacturer: TAI-TECH; Manufacturer Part Number: HCB3216KF-221T30; Package Size: 1206; JLCPCB Basic Part: No; JLCPCB Part Number: C357015; Supplier 1: LCSC; Category: Ferrite Beads; Supplier Part Number 1: C357015; Tolerance: ±25%; Rated Current: 3A; DC Resistance: 40mΩ; RoHS: Yes; ComponentLink1Description: Datasheet; ComponentLink1URL: https://wmsc.lcsc.com/wmsc/upload/file/pdf/v2/lcsc/2009171204_TAI-TECH-HCB3216KF-221T30_C357015.pdf; ComponentLink2Description: JLCPCB Part URL; ComponentLink2URL: https://jlcpcb.com/partdetail/C357015; ComponentLink3Description: LCSC Part URL; ComponentLink3URL: https://lcsc.com/product-detail/Ferrite-Beads_TAI-TECH-TAI-TECH-HCB3216KF-221T30_C357015.html
footprint FB-1206 (1206 (3216M) Ferrite)
pins: 1, 2

## HCB3216KF-300T80
designator FB?  Impedance @ Frequency: 30Ω@100MHz
Ferrite, 30Ω@100MHz, ±25%, 10mΩ, 8A, SMD 1206; Manufacturer: TAI-TECH; Manufacturer Part Number: HCB3216KF-300T80; Package Size: 1206; JLCPCB Basic Part: No; JLCPCB Part Number: C525677; Supplier 1: LCSC; Category: Ferrite Beads; Supplier Part Number 1: C525677; Tolerance: ±25%; Rated Current: 8A; DC Resistance: 10mΩ; RoHS: Yes; ComponentLink1Description: Datasheet; ComponentLink1URL: https://wmsc.lcsc.com/wmsc/upload/file/pdf/v2/lcsc/2009171443_TAI-TECH-HCB3216KF-300T80_C525677.pdf; ComponentLink2Description: JLCPCB Part URL; ComponentLink2URL: https://jlcpcb.com/partdetail/C525677; ComponentLink3Description: LCSC Part URL; ComponentLink3URL: https://lcsc.com/product-detail/Ferrite-Beads_TAI-TECH-TAI-TECH-HCB3216KF-300T80_C525677.html
footprint FB-1206 (1206 (3216M) Ferrite)
pins: 1, 2

## HCB3216KF-301T20
designator FB?  Impedance @ Frequency: 300Ω@100MHz
Ferrite, 300Ω@100MHz, ±25%, 100mΩ, 2A, SMD 1206; Manufacturer: TAI-TECH; Manufacturer Part Number: HCB3216KF-301T20; Package Size: 1206; JLCPCB Basic Part: No; JLCPCB Part Number: C2880064; Supplier 1: LCSC; Category: Ferrite Beads; Supplier Part Number 1: C2880064; Tolerance: ±25%; Rated Current: 2A; DC Resistance: 100mΩ; RoHS: Yes; ComponentLink1Description: Datasheet; ComponentLink1URL: https://wmsc.lcsc.com/wmsc/upload/file/pdf/v2/lcsc/2108241130_TAI-TECH-HCB3216KF-301T20_C2880064.pdf; ComponentLink2Description: JLCPCB Part URL; ComponentLink2URL: https://jlcpcb.com/partdetail/C2880064; ComponentLink3Description: LCSC Part URL; ComponentLink3URL: https://lcsc.com/product-detail/Ferrite-Beads_TAI-TECH-TAI-TECH-HCB3216KF-301T20_C2880064.html
footprint FB-1206 (1206 (3216M) Ferrite)
pins: 1, 2

## HCB3216KF-301T30
designator FB?  Impedance @ Frequency: 300Ω@100MHz
Ferrite, 300Ω@100MHz, ±25%, 40mΩ, 3A, SMD 1206; Manufacturer: TAI-TECH; Manufacturer Part Number: HCB3216KF-301T30; Package Size: 1206; JLCPCB Basic Part: No; JLCPCB Part Number: C357016; Supplier 1: LCSC; Category: Ferrite Beads; Supplier Part Number 1: C357016; Tolerance: ±25%; Rated Current: 3A; DC Resistance: 40mΩ; RoHS: Yes; ComponentLink1Description: Datasheet; ComponentLink1URL: https://wmsc.lcsc.com/wmsc/upload/file/pdf/v2/lcsc/2009171204_TAI-TECH-HCB3216KF-301T30_C357016.pdf; ComponentLink2Description: JLCPCB Part URL; ComponentLink2URL: https://jlcpcb.com/partdetail/C357016; ComponentLink3Description: LCSC Part URL; ComponentLink3URL: https://lcsc.com/product-detail/Ferrite-Beads_TAI-TECH-TAI-TECH-HCB3216KF-301T30_C357016.html
footprint FB-1206 (1206 (3216M) Ferrite)
pins: 1, 2

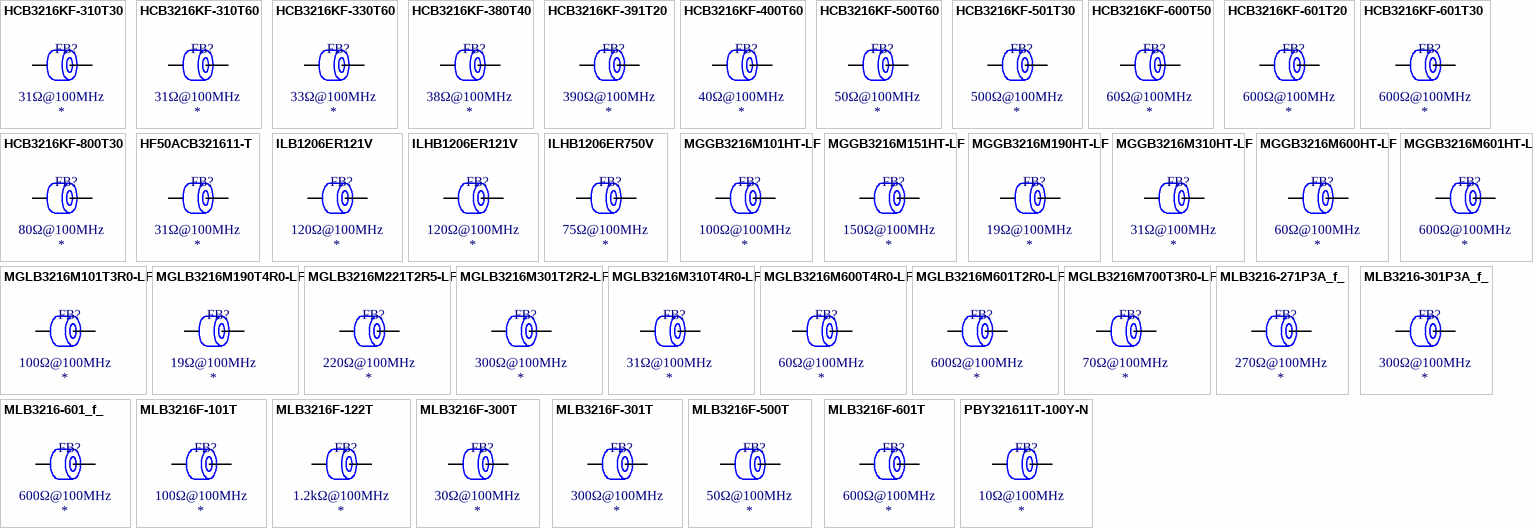
[diagram p5: symbols HCB3216KF-310T30 to PBY321611T-100Y-N]

## HCB3216KF-310T30
designator FB?  Impedance @ Frequency: 31Ω@100MHz
Ferrite, 31Ω@100MHz, ±25%, 40mΩ, 3A, SMD 1206; Manufacturer: TAI-TECH; Manufacturer Part Number: HCB3216KF-310T30; Package Size: 1206; JLCPCB Basic Part: No; JLCPCB Part Number: C369530; Supplier 1: LCSC; Category: Ferrite Beads; Supplier Part Number 1: C369530; Tolerance: ±25%; Rated Current: 3A; DC Resistance: 40mΩ; RoHS: Yes; ComponentLink1Description: Datasheet; ComponentLink1URL: https://wmsc.lcsc.com/wmsc/upload/file/pdf/v2/lcsc/2009171441_TAI-TECH-HCB3216KF-310T30_C369530.pdf; ComponentLink2Description: JLCPCB Part URL; ComponentLink2URL: https://jlcpcb.com/partdetail/C369530; ComponentLink3Description: LCSC Part URL; ComponentLink3URL: https://lcsc.com/product-detail/Ferrite-Beads_TAI-TECH-TAI-TECH-HCB3216KF-310T30_C369530.html
footprint FB-1206 (1206 (3216M) Ferrite)
pins: 1, 2

## HCB3216KF-310T60
designator FB?  Impedance @ Frequency: 31Ω@100MHz
Ferrite, 31Ω@100MHz, ±25%, 10mΩ, 6A, SMD 1206; Manufacturer: TAI-TECH; Manufacturer Part Number: HCB3216KF-310T60; Package Size: 1206; JLCPCB Basic Part: No; JLCPCB Part Number: C369531; Supplier 1: LCSC; Category: Ferrite Beads; Supplier Part Number 1: C369531; Tolerance: ±25%; Rated Current: 6A; DC Resistance: 10mΩ; RoHS: Yes; ComponentLink1Description: Datasheet; ComponentLink1URL: https://wmsc.lcsc.com/wmsc/upload/file/pdf/v2/lcsc/2009171441_TAI-TECH-HCB3216KF-310T60_C369531.pdf; ComponentLink2Description: JLCPCB Part URL; ComponentLink2URL: https://jlcpcb.com/partdetail/C369531; ComponentLink3Description: LCSC Part URL; ComponentLink3URL: https://lcsc.com/product-detail/Ferrite-Beads_TAI-TECH-TAI-TECH-HCB3216KF-310T60_C369531.html
footprint FB-1206 (1206 (3216M) Ferrite)
pins: 1, 2

## HCB3216KF-330T60
designator FB?  Impedance @ Frequency: 33Ω@100MHz
Ferrite, 33Ω@100MHz, ±25%, 6A, SMD 1206; Manufacturer: TAI-TECH; Manufacturer Part Number: HCB3216KF-330T60; Package Size: 1206; JLCPCB Basic Part: No; JLCPCB Part Number: C357017; Supplier 1: LCSC; Category: Ferrite Beads; Supplier Part Number 1: C357017; Tolerance: ±25%; Rated Current: 6A; RoHS: Yes; ComponentLink1Description: Datasheet; ComponentLink1URL: https://wmsc.lcsc.com/wmsc/upload/file/pdf/v2/lcsc/2009171204_TAI-TECH-HCB3216KF-330T60_C357017.pdf; ComponentLink2Description: JLCPCB Part URL; ComponentLink2URL: https://jlcpcb.com/partdetail/C357017; ComponentLink3Description: LCSC Part URL; ComponentLink3URL: https://lcsc.com/product-detail/Ferrite-Beads_TAI-TECH-TAI-TECH-HCB3216KF-330T60_C357017.html
pins: 1, 2

## HCB3216KF-380T40
designator FB?  Impedance @ Frequency: 38Ω@100MHz
Ferrite, 38Ω@100MHz, ±25%, 30mΩ, 4A, SMD 1206; Manufacturer: TAI-TECH; Manufacturer Part Number: HCB3216KF-380T40; Package Size: 1206; JLCPCB Basic Part: No; JLCPCB Part Number: C369532; Supplier 1: LCSC; Category: Ferrite Beads; Supplier Part Number 1: C369532; Tolerance: ±25%; Rated Current: 4A; DC Resistance: 30mΩ; RoHS: Yes; ComponentLink1Description: Datasheet; ComponentLink1URL: https://wmsc.lcsc.com/wmsc/upload/file/pdf/v2/lcsc/2009171441_TAI-TECH-HCB3216KF-380T40_C369532.pdf; ComponentLink2Description: JLCPCB Part URL; ComponentLink2URL: https://jlcpcb.com/partdetail/C369532; ComponentLink3Description: LCSC Part URL; ComponentLink3URL: https://lcsc.com/product-detail/Ferrite-Beads_TAI-TECH-TAI-TECH-HCB3216KF-380T40_C369532.html
footprint FB-1206 (1206 (3216M) Ferrite)
pins: 1, 2

## HCB3216KF-391T20
designator FB?  Impedance @ Frequency: 390Ω@100MHz
Ferrite, 390Ω@100MHz, ±25%, 100mΩ, 2A, SMD 1206; Manufacturer: TAI-TECH; Manufacturer Part Number: HCB3216KF-391T20; Package Size: 1206; JLCPCB Basic Part: No; JLCPCB Part Number: C369533; Supplier 1: LCSC; Category: Ferrite Beads; Supplier Part Number 1: C369533; Tolerance: ±25%; Rated Current: 2A; DC Resistance: 100mΩ; RoHS: Yes; ComponentLink1Description: Datasheet; ComponentLink1URL: https://wmsc.lcsc.com/wmsc/upload/file/pdf/v2/lcsc/2009171441_TAI-TECH-HCB3216KF-391T20_C369533.pdf; ComponentLink2Description: JLCPCB Part URL; ComponentLink2URL: https://jlcpcb.com/partdetail/C369533; ComponentLink3Description: LCSC Part URL; ComponentLink3URL: https://lcsc.com/product-detail/Ferrite-Beads_TAI-TECH-TAI-TECH-HCB3216KF-391T20_C369533.html
footprint FB-1206 (1206 (3216M) Ferrite)
pins: 1, 2

## HCB3216KF-400T60
designator FB?  Impedance @ Frequency: 40Ω@100MHz
Ferrite, 40Ω@100MHz, ±25%, 10mΩ, 6A, SMD 1206; Manufacturer: TAI-TECH; Manufacturer Part Number: HCB3216KF-400T60; Package Size: 1206; JLCPCB Basic Part: No; JLCPCB Part Number: C357018; Supplier 1: LCSC; Category: Ferrite Beads; Supplier Part Number 1: C357018; Tolerance: ±25%; Rated Current: 6A; DC Resistance: 10mΩ; RoHS: Yes; ComponentLink1Description: Datasheet; ComponentLink1URL: https://wmsc.lcsc.com/wmsc/upload/file/pdf/v2/lcsc/2009171204_TAI-TECH-HCB3216KF-400T60_C357018.pdf; ComponentLink2Description: JLCPCB Part URL; ComponentLink2URL: https://jlcpcb.com/partdetail/C357018; ComponentLink3Description: LCSC Part URL; ComponentLink3URL: https://lcsc.com/product-detail/Ferrite-Beads_TAI-TECH-TAI-TECH-HCB3216KF-400T60_C357018.html
footprint FB-1206 (1206 (3216M) Ferrite)
pins: 1, 2

## HCB3216KF-500T60
designator FB?  Impedance @ Frequency: 50Ω@100MHz
Ferrite, 50Ω@100MHz, ±25%, 10mΩ, 6A, SMD 1206; Manufacturer: TAI-TECH; Manufacturer Part Number: HCB3216KF-500T60; Package Size: 1206; JLCPCB Basic Part: No; JLCPCB Part Number: C357022; Supplier 1: LCSC; Category: Ferrite Beads; Supplier Part Number 1: C357022; Tolerance: ±25%; Rated Current: 6A; DC Resistance: 10mΩ; RoHS: Yes; ComponentLink1Description: Datasheet; ComponentLink1URL: https://wmsc.lcsc.com/wmsc/upload/file/pdf/v2/lcsc/2009171204_TAI-TECH-HCB3216KF-500T60_C357022.pdf; ComponentLink2Description: JLCPCB Part URL; ComponentLink2URL: https://jlcpcb.com/partdetail/C357022; ComponentLink3Description: LCSC Part URL; ComponentLink3URL: https://lcsc.com/product-detail/Ferrite-Beads_TAI-TECH-TAI-TECH-HCB3216KF-500T60_C357022.html
footprint FB-1206 (1206 (3216M) Ferrite)
pins: 1, 2

## HCB3216KF-501T30
designator FB?  Impedance @ Frequency: 500Ω@100MHz
Ferrite, 500Ω@100MHz, ±25%, 40mΩ, 3A, SMD 1206; Manufacturer: TAI-TECH; Manufacturer Part Number: HCB3216KF-501T30; Package Size: 1206; JLCPCB Basic Part: No; JLCPCB Part Number: C304332; Supplier 1: LCSC; Category: Ferrite Beads; Supplier Part Number 1: C304332; Tolerance: ±25%; Rated Current: 3A; DC Resistance: 40mΩ; RoHS: Yes; ComponentLink1Description: Datasheet; ComponentLink1URL: https://wmsc.lcsc.com/wmsc/upload/file/pdf/v2/lcsc/2009171411_TAI-TECH-HCB3216KF-501T30_C304332.pdf; ComponentLink2Description: JLCPCB Part URL; ComponentLink2URL: https://jlcpcb.com/partdetail/C304332; ComponentLink3Description: LCSC Part URL; ComponentLink3URL: https://lcsc.com/product-detail/Ferrite-Beads_TAI-TECH-TAI-TECH-HCB3216KF-501T30_C304332.html
footprint FB-1206 (1206 (3216M) Ferrite)
pins: 1, 2

## HCB3216KF-600T50
designator FB?  Impedance @ Frequency: 60Ω@100MHz
Ferrite, 60Ω@100MHz, ±25%, 20mΩ, 5A, SMD 1206; Manufacturer: TAI-TECH; Manufacturer Part Number: HCB3216KF-600T50; Package Size: 1206; JLCPCB Basic Part: No; JLCPCB Part Number: C304333; Supplier 1: LCSC; Category: Ferrite Beads; Supplier Part Number 1: C304333; Tolerance: ±25%; Rated Current: 5A; DC Resistance: 20mΩ; RoHS: Yes; ComponentLink1Description: Datasheet; ComponentLink1URL: https://wmsc.lcsc.com/wmsc/upload/file/pdf/v2/lcsc/2009171411_TAI-TECH-HCB3216KF-600T50_C304333.pdf; ComponentLink2Description: JLCPCB Part URL; ComponentLink2URL: https://jlcpcb.com/partdetail/C304333; ComponentLink3Description: LCSC Part URL; ComponentLink3URL: https://lcsc.com/product-detail/Ferrite-Beads_TAI-TECH-TAI-TECH-HCB3216KF-600T50_C304333.html
footprint FB-1206 (1206 (3216M) Ferrite)
pins: 1, 2

## HCB3216KF-601T20
designator FB?  Impedance @ Frequency: 600Ω@100MHz
Ferrite, 600Ω@100MHz, 100mΩ, SMD 1206; Manufacturer: TAI-TECH; Manufacturer Part Number: HCB3216KF-601T20; Package Size: 1206; JLCPCB Basic Part: No; JLCPCB Part Number: C127295; Supplier 1: LCSC; Category: Ferrite Beads; Supplier Part Number 1: C127295; DC Resistance: 100mΩ; RoHS: Yes; ComponentLink1Description: Datasheet; ComponentLink1URL: https://wmsc.lcsc.com/wmsc/upload/file/pdf/v2/lcsc/2401151013_TAI-TECH-HCB3216KF-601T20_C127295.pdf; ComponentLink2Description: JLCPCB Part URL; ComponentLink2URL: https://jlcpcb.com/partdetail/C127295; ComponentLink3Description: LCSC Part URL; ComponentLink3URL: https://lcsc.com/product-detail/Ferrite-Beads_TAI-TECH-TAI-TECH-HCB3216KF-601T20_C127295.html
pins: 1, 2

## HCB3216KF-601T30
designator FB?  Impedance @ Frequency: 600Ω@100MHz
Ferrite, 600Ω@100MHz, ±25%, 40mΩ, 3A, SMD 1206; Manufacturer: TAI-TECH; Manufacturer Part Number: HCB3216KF-601T30; Package Size: 1206; JLCPCB Basic Part: No; JLCPCB Part Number: C357023; Supplier 1: LCSC; Category: Ferrite Beads; Supplier Part Number 1: C357023; Tolerance: ±25%; Rated Current: 3A; DC Resistance: 40mΩ; RoHS: Yes; ComponentLink1Description: Datasheet; ComponentLink1URL: https://wmsc.lcsc.com/wmsc/upload/file/pdf/v2/lcsc/2009171204_TAI-TECH-HCB3216KF-601T30_C357023.pdf; ComponentLink2Description: JLCPCB Part URL; ComponentLink2URL: https://jlcpcb.com/partdetail/C357023; ComponentLink3Description: LCSC Part URL; ComponentLink3URL: https://lcsc.com/product-detail/Ferrite-Beads_TAI-TECH-TAI-TECH-HCB3216KF-601T30_C357023.html
footprint FB-1206 (1206 (3216M) Ferrite)
pins: 1, 2

## HCB3216KF-800T30
designator FB?  Impedance @ Frequency: 80Ω@100MHz
Ferrite, 80Ω@100MHz, ±25%, 40mΩ, 3A, SMD 1206; Manufacturer: TAI-TECH; Manufacturer Part Number: HCB3216KF-800T30; Package Size: 1206; JLCPCB Basic Part: No; JLCPCB Part Number: C304334; Supplier 1: LCSC; Category: Ferrite Beads; Supplier Part Number 1: C304334; Tolerance: ±25%; Rated Current: 3A; DC Resistance: 40mΩ; RoHS: Yes; ComponentLink1Description: Datasheet; ComponentLink1URL: https://wmsc.lcsc.com/wmsc/upload/file/pdf/v2/lcsc/2009171411_TAI-TECH-HCB3216KF-800T30_C304334.pdf; ComponentLink2Description: JLCPCB Part URL; ComponentLink2URL: https://jlcpcb.com/partdetail/C304334; ComponentLink3Description: LCSC Part URL; ComponentLink3URL: https://lcsc.com/product-detail/Ferrite-Beads_TAI-TECH-TAI-TECH-HCB3216KF-800T30_C304334.html
footprint FB-1206 (1206 (3216M) Ferrite)
pins: 1, 2

## HF50ACB321611-T
designator FB?  Impedance @ Frequency: 31Ω@100MHz
Ferrite, 31Ω@100MHz, 200mΩ, 500mA, SMD 1206; Manufacturer: TDK; Manufacturer Part Number: HF50ACB321611-T; Package Size: 1206; JLCPCB Basic Part: No; JLCPCB Part Number: C307900; Supplier 1: LCSC; Category: Ferrite Beads; Supplier Part Number 1: C307900; Rated Current: 500mA; DC Resistance: 200mΩ; RoHS: Yes; ComponentLink1Description: Datasheet; ComponentLink1URL: https://wmsc.lcsc.com/wmsc/upload/file/pdf/v2/lcsc/2401161221_TDK-HF50ACB321611-T_C307900.pdf; ComponentLink2Description: JLCPCB Part URL; ComponentLink2URL: https://jlcpcb.com/partdetail/C307900; ComponentLink3Description: LCSC Part URL; ComponentLink3URL: https://lcsc.com/product-detail/Ferrite-Beads_TDK-TDK-HF50ACB321611-T_C307900.html
pins: 1, 2

## ILB1206ER121V
designator FB?  Impedance @ Frequency: 120Ω@100MHz
Ferrite, 120Ω@100MHz, ±25%, 200mΩ, 400mA, SMD 1206; Manufacturer: Vishay Intertech; Manufacturer Part Number: ILB1206ER121V; Package Size: 1206; JLCPCB Basic Part: No; JLCPCB Part Number: C2662029; Supplier 1: LCSC; Category: Ferrite Beads; Supplier Part Number 1: C2662029; Tolerance: ±25%; Rated Current: 400mA; DC Resistance: 200mΩ; RoHS: Yes; ComponentLink1Description: Datasheet; ComponentLink1URL: https://wmsc.lcsc.com/wmsc/upload/file/pdf/v2/lcsc/2106071735_Vishay-Intertech-ILB1206ER121V_C2662029.pdf; ComponentLink2Description: JLCPCB Part URL; ComponentLink2URL: https://jlcpcb.com/partdetail/C2662029; ComponentLink3Description: LCSC Part URL; ComponentLink3URL: https://lcsc.com/product-detail/Ferrite-Beads_Vishay-Intertech-Vishay-Intertech-ILB1206ER121V_C2662029.html
footprint FB-1206 (1206 (3216M) Ferrite)
pins: 1, 2

## ILHB1206ER121V
designator FB?  Impedance @ Frequency: 120Ω@100MHz
Ferrite, 120Ω@100MHz, ±25%, 20mΩ, 6A, SMD 1206; Manufacturer: Vishay Intertech; Manufacturer Part Number: ILHB1206ER121V; Package Size: 1206; JLCPCB Basic Part: No; JLCPCB Part Number: C124704; Supplier 1: LCSC; Category: Ferrite Beads; Supplier Part Number 1: C124704; Tolerance: ±25%; Rated Current: 6A; DC Resistance: 20mΩ; RoHS: Yes; ComponentLink1Description: Datasheet; ComponentLink1URL: https://wmsc.lcsc.com/wmsc/upload/file/pdf/v2/lcsc/1804140410_Vishay-Intertech-ILHB1206ER121V_C124704.pdf; ComponentLink2Description: JLCPCB Part URL; ComponentLink2URL: https://jlcpcb.com/partdetail/C124704; ComponentLink3Description: LCSC Part URL; ComponentLink3URL: https://lcsc.com/product-detail/Ferrite-Beads_Vishay-Intertech-Vishay-Intertech-ILHB1206ER121V_C124704.html
footprint FB-1206 (1206 (3216M) Ferrite)
pins: 1, 2

## ILHB1206ER750V
designator FB?  Impedance @ Frequency: 75Ω@100MHz
Ferrite, 75Ω@100MHz, ±25%, 30mΩ, 3A, SMD 1206; Manufacturer: Vishay Intertech; Manufacturer Part Number: ILHB1206ER750V; Package Size: 1206; JLCPCB Basic Part: No; JLCPCB Part Number: C2661688; Supplier 1: LCSC; Category: Ferrite Beads; Supplier Part Number 1: C2661688; Tolerance: ±25%; Rated Current: 3A; DC Resistance: 30mΩ; RoHS: Yes; ComponentLink1Description: Datasheet; ComponentLink1URL: https://wmsc.lcsc.com/wmsc/upload/file/pdf/v2/lcsc/2304140030_Vishay-Intertech-ILHB1206ER750V_C2661688.pdf; ComponentLink2Description: JLCPCB Part URL; ComponentLink2URL: https://jlcpcb.com/partdetail/C2661688; ComponentLink3Description: LCSC Part URL; ComponentLink3URL: https://lcsc.com/product-detail/Ferrite-Beads_Vishay-Intertech-Vishay-Intertech-ILHB1206ER750V_C2661688.html
footprint FB-1206 (1206 (3216M) Ferrite)
pins: 1, 2

## MGGB3216M101HT-LF
designator FB?  Impedance @ Frequency: 100Ω@100MHz
Ferrite, 100Ω@100MHz, ±25%, 0.1Ω, 1000mA, SMD 1206; Manufacturer: microgate; Manufacturer Part Number: MGGB3216M101HT-LF; Package Size: 1206; JLCPCB Basic Part: No; JLCPCB Part Number: C281174; Supplier 1: LCSC; Category: Ferrite Beads; Supplier Part Number 1: C281174; Tolerance: ±25%; Rated Current: 1000mA; DC Resistance: 0.1Ω; RoHS: Yes; ComponentLink1Description: Datasheet; ComponentLink1URL: https://wmsc.lcsc.com/wmsc/upload/file/pdf/v2/lcsc/2304140030_microgate-MGGB3216M101HT-LF_C281174.pdf; ComponentLink2Description: JLCPCB Part URL; ComponentLink2URL: https://jlcpcb.com/partdetail/C281174; ComponentLink3Description: LCSC Part URL; ComponentLink3URL: https://lcsc.com/product-detail/Ferrite-Beads_microgate-microgate-MGGB3216M101HT-LF_C281174.html
footprint FB-1206 (1206 (3216M) Ferrite)
pins: 1, 2

## MGGB3216M151HT-LF
designator FB?  Impedance @ Frequency: 150Ω@100MHz
Ferrite, 150Ω@100MHz, ±25%, 0.15Ω, 600mA, SMD 1206; Manufacturer: microgate; Manufacturer Part Number: MGGB3216M151HT-LF; Package Size: 1206; JLCPCB Basic Part: No; JLCPCB Part Number: C281178; Supplier 1: LCSC; Category: Ferrite Beads; Supplier Part Number 1: C281178; Tolerance: ±25%; Rated Current: 600mA; DC Resistance: 0.15Ω; RoHS: Yes; ComponentLink1Description: Datasheet; ComponentLink1URL: https://wmsc.lcsc.com/wmsc/upload/file/pdf/v2/lcsc/2304140030_microgate-MGGB3216M151HT-LF_C281178.pdf; ComponentLink2Description: JLCPCB Part URL; ComponentLink2URL: https://jlcpcb.com/partdetail/C281178; ComponentLink3Description: LCSC Part URL; ComponentLink3URL: https://lcsc.com/product-detail/Ferrite-Beads_microgate-microgate-MGGB3216M151HT-LF_C281178.html
footprint FB-1206 (1206 (3216M) Ferrite)
pins: 1, 2

## MGGB3216M190HT-LF
designator FB?  Impedance @ Frequency: 19Ω@100MHz
Ferrite, 19Ω@100MHz, ±25%, 0.05Ω, 2000mA, SMD 1206; Manufacturer: microgate; Manufacturer Part Number: MGGB3216M190HT-LF; Package Size: 1206; JLCPCB Basic Part: No; JLCPCB Part Number: C281181; Supplier 1: LCSC; Category: Ferrite Beads; Supplier Part Number 1: C281181; Tolerance: ±25%; Rated Current: 2000mA; DC Resistance: 0.05Ω; RoHS: Yes; ComponentLink1Description: Datasheet; ComponentLink1URL: https://wmsc.lcsc.com/wmsc/upload/file/pdf/v2/lcsc/2304140030_microgate-MGGB3216M190HT-LF_C281181.pdf; ComponentLink2Description: JLCPCB Part URL; ComponentLink2URL: https://jlcpcb.com/partdetail/C281181; ComponentLink3Description: LCSC Part URL; ComponentLink3URL: https://lcsc.com/product-detail/Ferrite-Beads_microgate-microgate-MGGB3216M190HT-LF_C281181.html
footprint FB-1206 (1206 (3216M) Ferrite)
pins: 1, 2

## MGGB3216M310HT-LF
designator FB?  Impedance @ Frequency: 31Ω@100MHz
Ferrite, 31Ω@100MHz, ±25%, 0.05Ω, 2000mA, SMD 1206; Manufacturer: microgate; Manufacturer Part Number: MGGB3216M310HT-LF; Package Size: 1206; JLCPCB Basic Part: No; JLCPCB Part Number: C281186; Supplier 1: LCSC; Category: Ferrite Beads; Supplier Part Number 1: C281186; Tolerance: ±25%; Rated Current: 2000mA; DC Resistance: 0.05Ω; RoHS: Yes; ComponentLink1Description: Datasheet; ComponentLink1URL: https://wmsc.lcsc.com/wmsc/upload/file/pdf/v2/lcsc/2304140030_microgate-MGGB3216M310HT-LF_C281186.pdf; ComponentLink2Description: JLCPCB Part URL; ComponentLink2URL: https://jlcpcb.com/partdetail/C281186; ComponentLink3Description: LCSC Part URL; ComponentLink3URL: https://lcsc.com/product-detail/Ferrite-Beads_microgate-microgate-MGGB3216M310HT-LF_C281186.html
footprint FB-1206 (1206 (3216M) Ferrite)
pins: 1, 2

## MGGB3216M600HT-LF
designator FB?  Impedance @ Frequency: 60Ω@100MHz
Ferrite, 60Ω@100MHz, ±25%, 0.08Ω, 1000mA, SMD 1206; Manufacturer: microgate; Manufacturer Part Number: MGGB3216M600HT-LF; Package Size: 1206; JLCPCB Basic Part: No; JLCPCB Part Number: C281190; Supplier 1: LCSC; Category: Ferrite Beads; Supplier Part Number 1: C281190; Tolerance: ±25%; Rated Current: 1000mA; DC Resistance: 0.08Ω; RoHS: Yes; ComponentLink1Description: Datasheet; ComponentLink1URL: https://wmsc.lcsc.com/wmsc/upload/file/pdf/v2/lcsc/2304140030_microgate-MGGB3216M600HT-LF_C281190.pdf; ComponentLink2Description: JLCPCB Part URL; ComponentLink2URL: https://jlcpcb.com/partdetail/C281190; ComponentLink3Description: LCSC Part URL; ComponentLink3URL: https://lcsc.com/product-detail/Ferrite-Beads_microgate-microgate-MGGB3216M600HT-LF_C281190.html
footprint FB-1206 (1206 (3216M) Ferrite)
pins: 1, 2